# Altium schematic symbol library K50-35_oll_models.SchLib: 173 symbols
Pins are listed as number, name and electrical type; pins without a type are passive.

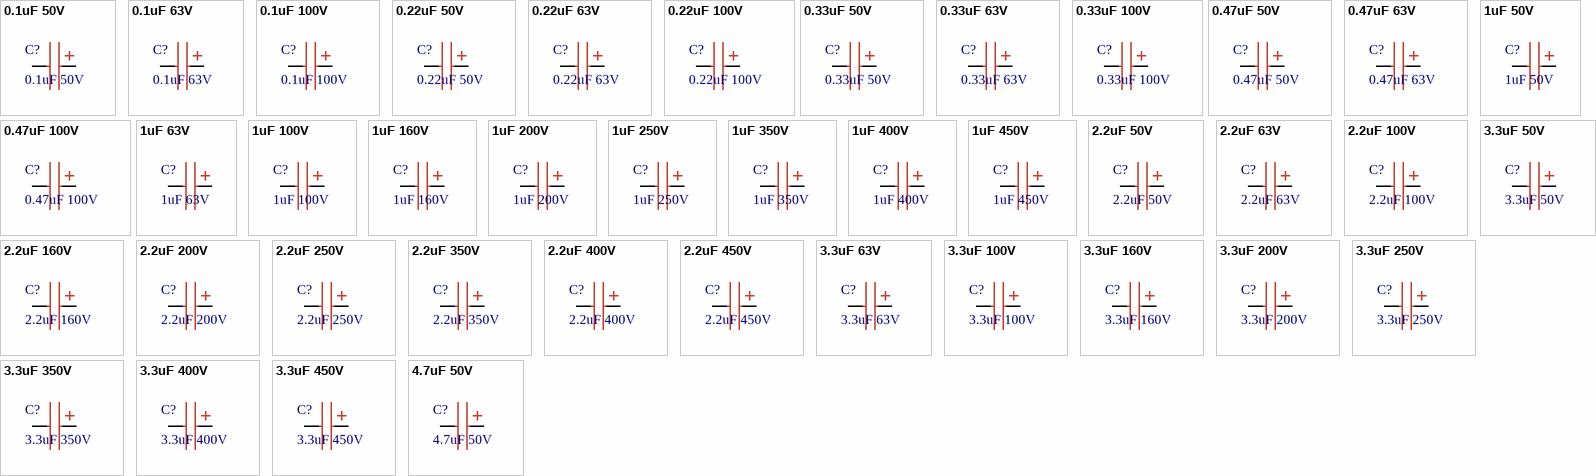
[diagram p0: symbols 0.1uF 50V to 4.7uF 50V]

## 0.1uF 50V
designator C?
footprint D5_F2_d0.5
pins: 1, 2

## 0.1uF 63V
designator C?
footprint D5_F2_d0.5
pins: 1, 2

## 0.1uF 100V
designator C?
footprint D5_F2_d0.5
pins: 1, 2

## 0.22uF 50V
designator C?
footprint D5_F2_d0.5
pins: 1, 2

## 0.22uF 63V
designator C?
footprint D5_F2_d0.5
pins: 1, 2

## 0.22uF 100V
designator C?
footprint D5_F2_d0.5
pins: 1, 2

## 0.33uF 50V
designator C?
footprint D5_F2_d0.5
pins: 1, 2

## 0.33uF 63V
designator C?
footprint D5_F2_d0.5
pins: 1, 2

## 0.33uF 100V
designator C?
footprint D5_F2_d0.5
pins: 1, 2

## 0.47uF 50V
designator C?
footprint D5_F2_d0.5
pins: 1, 2

## 0.47uF 63V
designator C?
footprint D5_F2_d0.5
pins: 1, 2

## 0.47uF 100V
designator C?
footprint D5_F2_d0.5
pins: 1, 2

## 1uF 50V
designator C?
footprint D5_F2_d0.5
pins: 1, 2

## 1uF 63V
designator C?
footprint D5_F2_d0.5
pins: 1, 2

## 1uF 100V
designator C?
footprint D5_F2_d0.5
pins: 1, 2

## 1uF 160V
designator C?
footprint D6.3_F2.5_d0.5
pins: 1, 2

## 1uF 200V
designator C?
footprint D6.3_F2.5_d0.5
pins: 1, 2

## 1uF 250V
designator C?
footprint D6.3_F2.5_d0.5
pins: 1, 2

## 1uF 350V
designator C?
footprint D6.3_F2.5_d0.5
pins: 1, 2

## 1uF 400V
designator C?
footprint D8_F3.5_d0.6
pins: 1, 2

## 1uF 450V
designator C?
footprint D8_F3.5_d0.6
pins: 1, 2

## 2.2uF 50V
designator C?
footprint D5_F2_d0.5
pins: 1, 2

## 2.2uF 63V
designator C?
footprint D5_F2_d0.5
pins: 1, 2

## 2.2uF 100V
designator C?
footprint D5_F2_d0.5
pins: 1, 2

## 2.2uF 160V
designator C?
footprint D6.3_F2.5_d0.5
pins: 1, 2

## 2.2uF 200V
designator C?
footprint D6.3_F2.5_d0.5
pins: 1, 2

## 2.2uF 250V
designator C?
footprint D8_F3.5_d0.6
pins: 1, 2

## 2.2uF 350V
designator C?
footprint D10_F5_d0.6_12.5
pins: 1, 2

## 2.2uF 400V
designator C?
footprint D10_F5_d0.6_12.5
pins: 1, 2

## 2.2uF 450V
designator C?
footprint D10_F5_d0.6_16
pins: 1, 2

## 3.3uF 50V
designator C?
footprint D5_F2_d0.5
pins: 1, 2

## 3.3uF 63V
designator C?
footprint D5_F2_d0.5
pins: 1, 2

## 3.3uF 100V
designator C?
footprint D5_F2_d0.5
pins: 1, 2

## 3.3uF 160V
designator C?
footprint D8_F3.5_d0.6
pins: 1, 2

## 3.3uF 200V
designator C?
footprint D8_F3.5_d0.6
pins: 1, 2

## 3.3uF 250V
designator C?
footprint D10_F5_d0.6_12.5
pins: 1, 2

## 3.3uF 350V
designator C?
footprint D10_F5_d0.6_12.5
pins: 1, 2

## 3.3uF 400V
designator C?
footprint D10_F5_d0.6_16
pins: 1, 2

## 3.3uF 450V
designator C?
footprint D10_F5_d0.6_16
pins: 1, 2

## 4.7uF 50V
designator C?
footprint D5_F2_d0.5
pins: 1, 2

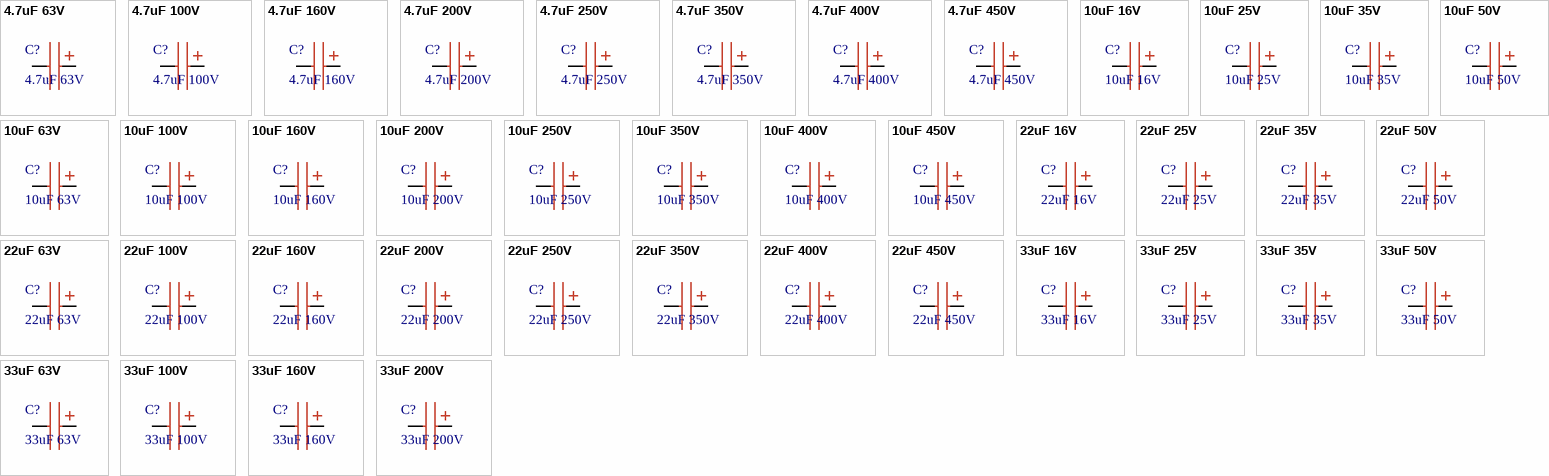
[diagram p1: symbols 4.7uF 63V to 33uF 200V]

## 4.7uF 63V
designator C?
footprint D5_F2_d0.5
pins: 1, 2

## 4.7uF 100V
designator C?
footprint D5_F2_d0.5
pins: 1, 2

## 4.7uF 160V
designator C?
footprint D8_F3.5_d0.6
pins: 1, 2

## 4.7uF 200V
designator C?
footprint D10_F5_d0.6_12.5
pins: 1, 2

## 4.7uF 250V
designator C?
footprint D10_F5_d0.6_12.5
pins: 1, 2

## 4.7uF 350V
designator C?
footprint D10_F5_d0.6_16
pins: 1, 2

## 4.7uF 400V
designator C?
footprint D10_F5_d0.6_16
pins: 1, 2

## 4.7uF 450V
designator C?
footprint D10_F5_d0.6_20
pins: 1, 2

## 10uF 16V
designator C?
footprint D5_F2_d0.5
pins: 1, 2

## 10uF 25V
designator C?
footprint D5_F2_d0.5
pins: 1, 2

## 10uF 35V
designator C?
footprint D5_F2_d0.5
pins: 1, 2

## 10uF 50V
designator C?
footprint D5_F2_d0.5
pins: 1, 2

## 10uF 63V
designator C?
footprint D5_F2_d0.5
pins: 1, 2

## 10uF 100V
designator C?
footprint D6.3_F2.5_d0.5
pins: 1, 2

## 10uF 160V
designator C?
footprint D10_F5_d0.6_12.5
pins: 1, 2

## 10uF 200V
designator C?
footprint D10_F5_d0.6_16
pins: 1, 2

## 10uF 250V
designator C?
footprint D10_F5_d0.6_16
pins: 1, 2

## 10uF 350V
designator C?
footprint D10_F5_d0.6_20
pins: 1, 2

## 10uF 400V
designator C?
footprint D13_F5_d0.6_20
pins: 1, 2

## 10uF 450V
designator C?
footprint D13_F5_d0.6_20
pins: 1, 2

## 22uF 16V
designator C?
footprint D5_F2_d0.5
pins: 1, 2

## 22uF 25V
designator C?
footprint D5_F2_d0.5
pins: 1, 2

## 22uF 35V
designator C?
footprint D5_F2_d0.5
pins: 1, 2

## 22uF 50V
designator C?
footprint D5_F2_d0.5
pins: 1, 2

## 22uF 63V
designator C?
footprint D5_F2_d0.5
pins: 1, 2

## 22uF 100V
designator C?
footprint D6.3_F2.5_d0.5
pins: 1, 2

## 22uF 160V
designator C?
footprint D10_F5_d0.6_20
pins: 1, 2

## 22uF 200V
designator C?
footprint D10_F5_d0.6_20
pins: 1, 2

## 22uF 250V
designator C?
footprint D13_F5_d0.6_20
pins: 1, 2

## 22uF 350V
designator C?
footprint D13_F5_d0.6_25
pins: 1, 2

## 22uF 400V
designator C?
footprint D16_F7.5_d0.8_25
pins: 1, 2

## 22uF 450V
designator C?
footprint D16_F7.5_d0.8_25
pins: 1, 2

## 33uF 16V
designator C?
footprint D5_F2_d0.5
pins: 1, 2

## 33uF 25V
designator C?
footprint D5_F2_d0.5
pins: 1, 2

## 33uF 35V
designator C?
footprint D5_F2_d0.5
pins: 1, 2

## 33uF 50V
designator C?
footprint D6.3_F2.5_d0.5
pins: 1, 2

## 33uF 63V
designator C?
footprint D6.3_F2.5_d0.5
pins: 1, 2

## 33uF 100V
designator C?
footprint D10_F5_d0.6_12.5
pins: 1, 2

## 33uF 160V
designator C?
footprint D13_F5_d0.6_20
pins: 1, 2

## 33uF 200V
designator C?
footprint D13_F5_d0.6_20
pins: 1, 2

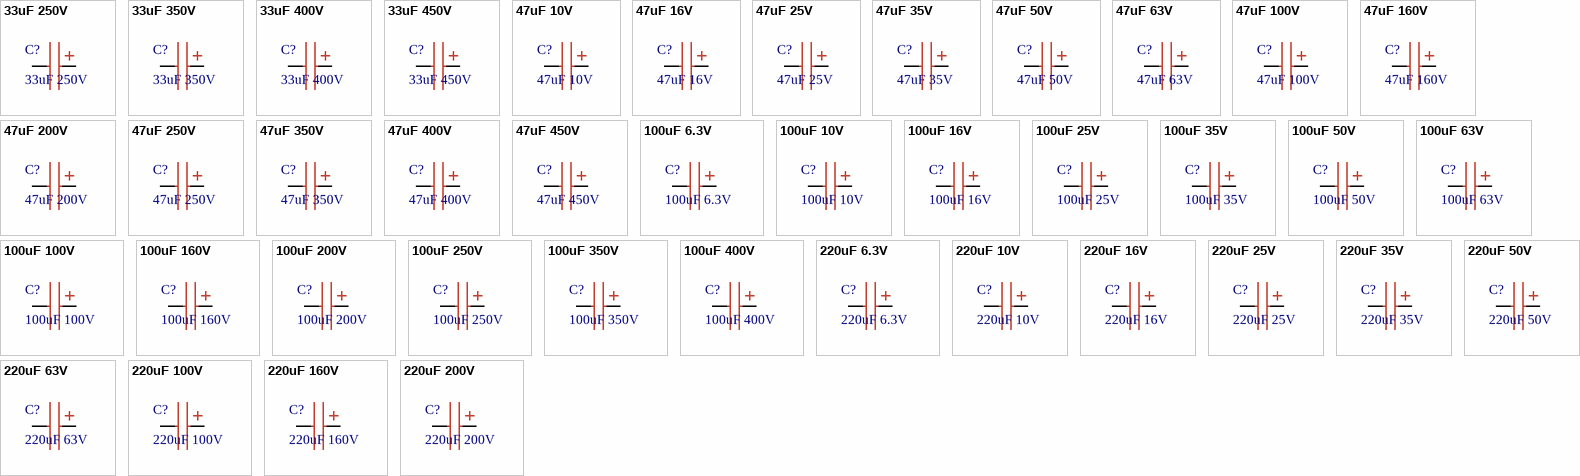
[diagram p2: symbols 33uF 250V to 220uF 200V]

## 33uF 250V
designator C?
footprint D13_F5_d0.6_25
pins: 1, 2

## 33uF 350V
designator C?
footprint D16_F7.5_d0.8_25
pins: 1, 2

## 33uF 400V
designator C?
footprint D16_F7.5_d0.8_31.5
pins: 1, 2

## 33uF 450V
designator C?
footprint D16_F7.5_d0.8_31.5
pins: 1, 2

## 47uF 10V
designator C?
footprint D5_F2_d0.5
pins: 1, 2

## 47uF 16V
designator C?
footprint D5_F2_d0.5
pins: 1, 2

## 47uF 25V
designator C?
footprint D5_F2_d0.5
pins: 1, 2

## 47uF 35V
designator C?
footprint D5_F2_d0.5
pins: 1, 2

## 47uF 50V
designator C?
footprint D6.3_F2.5_d0.5
pins: 1, 2

## 47uF 63V
designator C?
footprint D8_F3.5_d0.6
pins: 1, 2

## 47uF 100V
designator C?
footprint D10_F5_d0.6_16
pins: 1, 2

## 47uF 160V
designator C?
footprint D13_F5_d0.6_25
pins: 1, 2

## 47uF 200V
designator C?
footprint D13_F5_d0.6_25
pins: 1, 2

## 47uF 250V
designator C?
footprint D16_F7.5_d0.8_25
pins: 1, 2

## 47uF 350V
designator C?
footprint D16_F7.5_d0.8_31.5
pins: 1, 2

## 47uF 400V
designator C?
footprint D16_F7.5_d0.8_31.5
pins: 1, 2

## 47uF 450V
designator C?
footprint D16_F7.5_d0.8_31.5
pins: 1, 2

## 100uF 6.3V
designator C?
footprint D5_F2_d0.5
pins: 1, 2

## 100uF 10V
designator C?
footprint D5_F2_d0.5
pins: 1, 2

## 100uF 16V
designator C?
footprint D5_F2_d0.5
pins: 1, 2

## 100uF 25V
designator C?
footprint D6.3_F2.5_d0.5
pins: 1, 2

## 100uF 35V
designator C?
footprint D6.3_F2.5_d0.5
pins: 1, 2

## 100uF 50V
designator C?
footprint D8_F3.5_d0.6
pins: 1, 2

## 100uF 63V
designator C?
footprint D10_F5_d0.6_12.5
pins: 1, 2

## 100uF 100V
designator C?
footprint D10_F5_d0.6_20
pins: 1, 2

## 100uF 160V
designator C?
footprint D13_F5_d0.6_25
pins: 1, 2

## 100uF 200V
designator C?
footprint D16_F7.5_d0.8_25
pins: 1, 2

## 100uF 250V
designator C?
footprint D16_F7.5_d0.8_31.5
pins: 1, 2

## 100uF 350V
designator C?
footprint D18_F7.5_d0.8_40
pins: 1, 2

## 100uF 400V
designator C?
footprint D22_F7.5_d0.8_40
pins: 1, 2

## 220uF 6.3V
designator C?
footprint D6.3_F2.5_d0.5
pins: 1, 2

## 220uF 10V
designator C?
footprint D6.3_F2.5_d0.5
pins: 1, 2

## 220uF 16V
designator C?
footprint D6.3_F2.5_d0.5
pins: 1, 2

## 220uF 25V
designator C?
footprint D8_F3.5_d0.6
pins: 1, 2

## 220uF 35V
designator C?
footprint D8_F3.5_d0.6
pins: 1, 2

## 220uF 50V
designator C?
footprint D10_F5_d0.6_12.5
pins: 1, 2

## 220uF 63V
designator C?
footprint D10_F5_d0.6_16
pins: 1, 2

## 220uF 100V
designator C?
footprint D16_F7.5_d0.8_25
pins: 1, 2

## 220uF 160V
designator C?
footprint D16_F7.5_d0.8_31.5
pins: 1, 2

## 220uF 200V
designator C?
footprint D18_F7.5_d0.8_40
pins: 1, 2

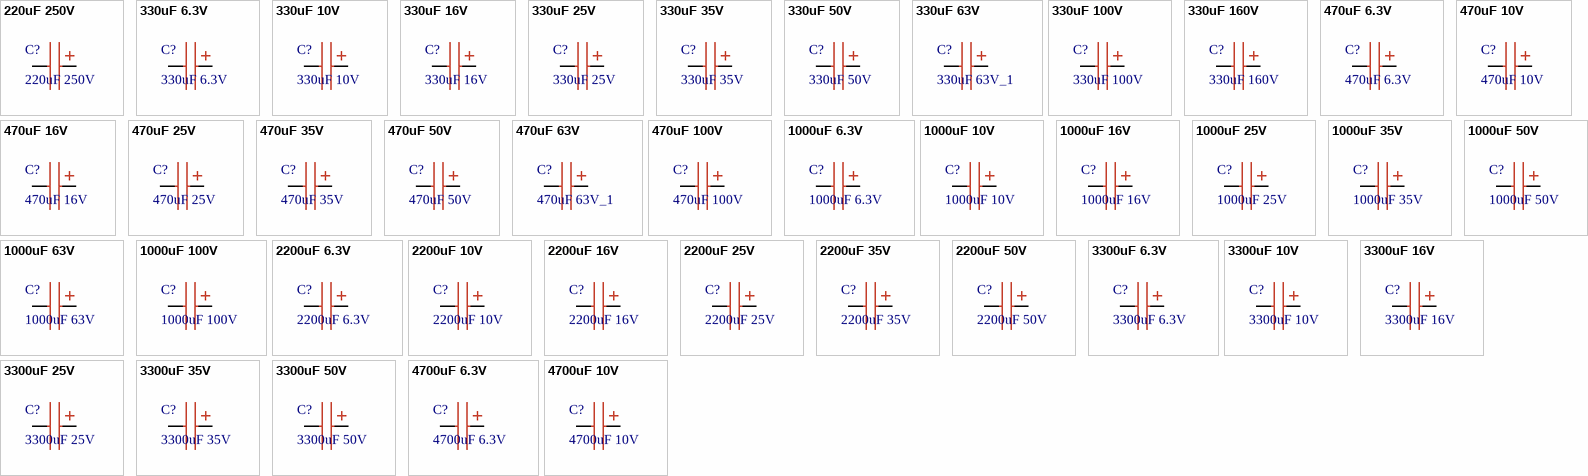
[diagram p3: symbols 220uF 250V to 4700uF 10V]

## 220uF 250V
designator C?
footprint D18_F7.5_d0.8_40
pins: 1, 2

## 330uF 6.3V
designator C?
footprint D6.3_F2.5_d0.5
pins: 1, 2

## 330uF 10V
designator C?
footprint D8_F3.5_d0.6
pins: 1, 2

## 330uF 16V
designator C?
footprint D8_F3.5_d0.6
pins: 1, 2

## 330uF 25V
designator C?
footprint D10_F5_d0.6_12.5
pins: 1, 2

## 330uF 35V
designator C?
footprint D10_F5_d0.6_16
pins: 1, 2

## 330uF 50V
designator C?
footprint D10_F5_d0.6_20
pins: 1, 2

## 330uF 63V
designator C?, comment 330uF 63V_1
footprint D13_F5_d0.6_20
pins: 1, 2

## 330uF 100V
designator C?
footprint D13_F5_d0.6_25
pins: 1, 2

## 330uF 160V
designator C?
footprint D22_F7.5_d0.8_40
pins: 1, 2

## 470uF 6.3V
designator C?
footprint D8_F3.5_d0.6
pins: 1, 2

## 470uF 10V
designator C?
footprint D8_F3.5_d0.6
pins: 1, 2

## 470uF 16V
designator C?
footprint D10_F5_d0.6_12.5
pins: 1, 2

## 470uF 25V
designator C?
footprint D10_F5_d0.6_16
pins: 1, 2

## 470uF 35V
designator C?
footprint D10_F5_d0.6_20
pins: 1, 2

## 470uF 50V
designator C?
footprint D13_F5_d0.6_20
pins: 1, 2

## 470uF 63V
designator C?, comment 470uF 63V_1
footprint D13_F5_d0.6_25
pins: 1, 2

## 470uF 100V
designator C?
footprint D16_F7.5_d0.8_31.5
pins: 1, 2

## 1000uF 6.3V
designator C?
footprint D8_F3.5_d0.6
pins: 1, 2

## 1000uF 10V
designator C?
footprint D10_F5_d0.6_16
pins: 1, 2

## 1000uF 16V
designator C?
footprint D10_F5_d0.6_20
pins: 1, 2

## 1000uF 25V
designator C?
footprint D13_F5_d0.6_20
pins: 1, 2

## 1000uF 35V
designator C?
footprint D13_F5_d0.6_25
pins: 1, 2

## 1000uF 50V
designator C?
footprint D16_F7.5_d0.8_25
pins: 1, 2

## 1000uF 63V
designator C?
footprint D16_F7.5_d0.8_31.5
pins: 1, 2

## 1000uF 100V
designator C?
footprint D18_F7.5_d0.8_40
pins: 1, 2

## 2200uF 6.3V
designator C?
footprint D13_F5_d0.6_20
pins: 1, 2

## 2200uF 10V
designator C?
footprint D13_F5_d0.6_20
pins: 1, 2

## 2200uF 16V
designator C?
footprint D13_F5_d0.6_25
pins: 1, 2

## 2200uF 25V
designator C?
footprint D16_F7.5_d0.8_25
pins: 1, 2

## 2200uF 35V
designator C?
footprint D16_F7.5_d0.8_31.5
pins: 1, 2

## 2200uF 50V
designator C?
footprint D18_F7.5_d0.8_40
pins: 1, 2

## 3300uF 6.3V
designator C?
footprint D13_F5_d0.6_20
pins: 1, 2

## 3300uF 10V
designator C?
footprint D13_F5_d0.6_25
pins: 1, 2

## 3300uF 16V
designator C?
footprint D16_F7.5_d0.8_25
pins: 1, 2

## 3300uF 25V
designator C?
footprint D16_F7.5_d0.8_31.5
pins: 1, 2

## 3300uF 35V
designator C?
footprint D18_F7.5_d0.8_40
pins: 1, 2

## 3300uF 50V
designator C?
footprint D18_F7.5_d0.8_40
pins: 1, 2

## 4700uF 6.3V
designator C?
footprint D16_F7.5_d0.8_25
pins: 1, 2

## 4700uF 10V
designator C?
footprint D16_F7.5_d0.8_25
pins: 1, 2

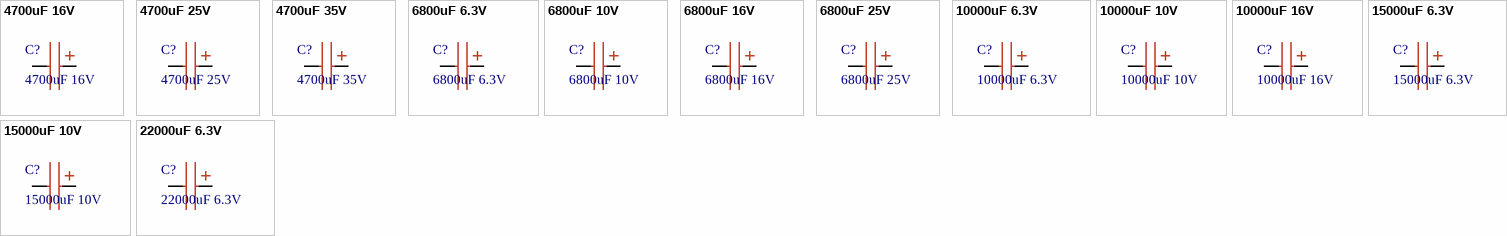
[diagram p4: symbols 4700uF 16V to 22000uF 6.3V]

## 4700uF 16V
designator C?
footprint D16_F7.5_d0.8_31.5
pins: 1, 2

## 4700uF 25V
designator C?
footprint D18_F7.5_d0.8_40
pins: 1, 2

## 4700uF 35V
designator C?
footprint D18_F7.5_d0.8_40
pins: 1, 2

## 6800uF 6.3V
designator C?
footprint D16_F7.5_d0.8_25
pins: 1, 2

## 6800uF 10V
designator C?
footprint D16_F7.5_d0.8_31.5
pins: 1, 2

## 6800uF 16V
designator C?
footprint D18_F7.5_d0.8_40
pins: 1, 2

## 6800uF 25V
designator C?
footprint D18_F7.5_d0.8_40
pins: 1, 2

## 10000uF 6.3V
designator C?
footprint D16_F7.5_d0.8_31.5
pins: 1, 2

## 10000uF 10V
designator C?
footprint D18_F7.5_d0.8_40
pins: 1, 2

## 10000uF 16V
designator C?
footprint D18_F7.5_d0.8_40
pins: 1, 2

## 15000uF 6.3V
designator C?
footprint D16_F7.5_d0.8_31.5
pins: 1, 2

## 15000uF 10V
designator C?
footprint D18_F7.5_d0.8_40
pins: 1, 2

## 22000uF 6.3V
designator C?
value: 10*25
footprint D18_F7.5_d0.8_40
pins: 1, 2